# Altium integrated library TI Data Converters Digital to Analog Converter.IntLib: 1533 symbols (part 48 of 99)
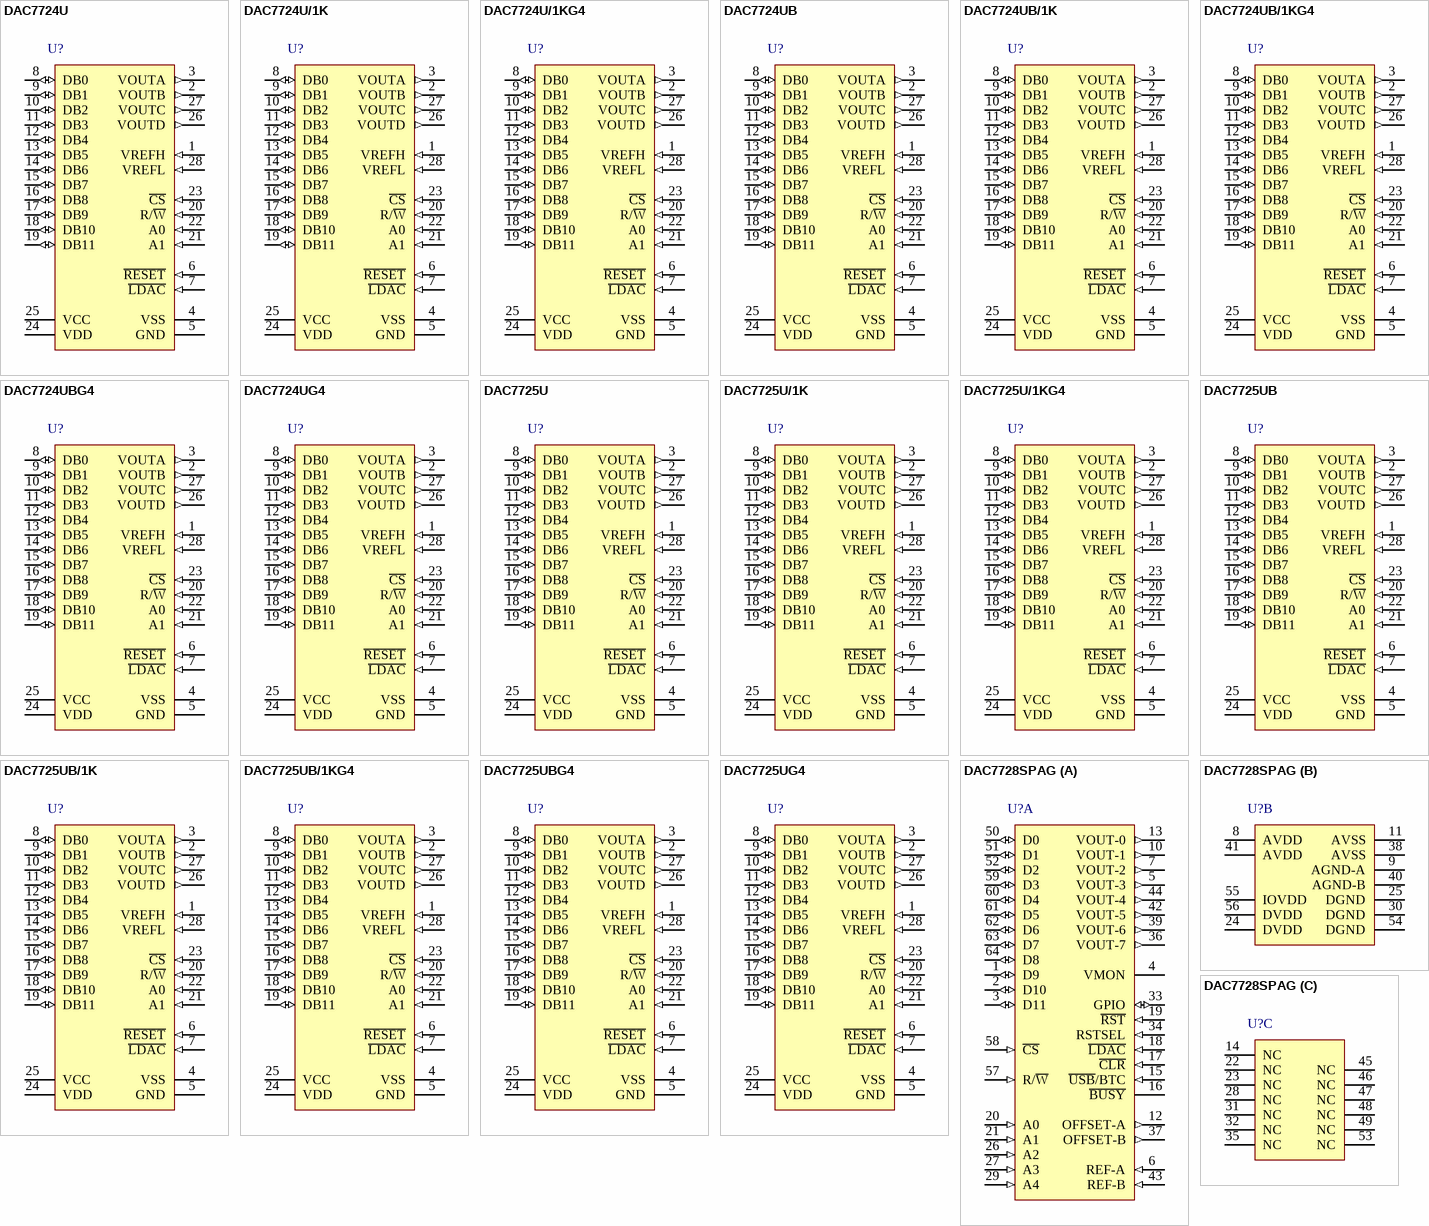
[diagram p120: symbols DAC7724U to DAC7728SPAG]

## DAC7725UB
designator U?
12-Bit Quad Voltage Output DAC, -40 to 85 degC, 28-pin SOIC (DW28), Green (RoHS & no Sb/Br); Manufacturer: Texas Instruments; PartNumber: DAC7725UB; DAC Channels: 4; DNL(Max)(+/-LSB): 1; Interface: Parallel; Power Consumption(Typ)(mW): 45; Resolution(Bits): 12; Settling Time(us): 8; SubFamily: Precision DAC (=<10MSPS); DatasheetVersion: SBAS112; PackageVersion: 4040000-6/G, 01/2011; PackageReference: DW28; PackageDescription: 28-Pin Plastic Small Outline, Body 17.90 x 7.50 mm, Pitch 1.27 mm; Supplier 1: Digi-Key; Supplier Part Number 1: DAC7725UB-ND; Supplier 2: Farnell; Supplier Part Number 2: 1212276; Supplier 3: Newark; Supplier Part Number 3: 74C9252; Supplier 4: Mouser; Supplier Part Number 4: 595-DAC7725UB; Eco-Plan: Green (RoHS & no Sb/Br); INL(Max)(+/-LSB): 1; Mounting Technology: Surface Mount; Code_JEDEC: MS-013; ComponentLink1Description: Manufacturer URL; ComponentLink1URL: http://www.ti.com/; ComponentLink2Description: Datasheet; ComponentLink2URL: http://www.ti.com/general/docs/lit/getliterature.tsp?genericPartNumber=DAC7725&fileType=pdf; ComponentLink3Description: Package Specification; ComponentLink3URL: http://www.ti.com/lit/ml/mpds175a/mpds175a.pdf
footprint TI-DW28_N (SOIC, 28-Leads, Body 17.9x7.5mm, Pitch 1.27mm, IPC Medium Density)
footprint TI-DW28_L (SOIC, 28-Leads, Body 17.9x7.5mm, Pitch 1.27mm, IPC High Density)
footprint TI-DW28_M (SOIC, 28-Leads, Body 17.9x7.5mm, Pitch 1.27mm, IPC Low Density)
pins: 1 VREFH (in) "Reference Input Voltage High. Sets maximum output voltage for all DACs.", 2 VOUTB (out) "DAC B Voltage Output.", 3 VOUTA (out) "DAC A Voltage Output.", 4 VSS (power) "Negative Analog Supply Voltage, 0V or -15V.", 5 GND (power) "Ground.", 6 ~{RESET} (in) "Asynchronous Reset Input. Sets DAC and input registers to either mid-scale (800H, DAC7724) or zero-scale (000H, DAC7725) when LOW.", 7 ~{LDAC} (in) "Load DAC Input. All DAC Registers are transparent when LOW.", 8 DB0 (io) "Data Bit 0. Least significant bit of 12-bit word.", 9 DB1 (io) "Data Bit 1", 10 DB2 (io) "Data Bit 2", 11 DB3 (io) "Data Bit 3", 12 DB4 (io) "Data Bit 4", 13 DB5 (io) "Data Bit 5", 14 DB6 (io) "Data Bit 6", 15 DB7 (io) "Data Bit 7", 16 DB8 (io) "Data Bit 8", 17 DB9 (io) "Data Bit 9", 18 DB10 (io) "Data Bit 10", 19 DB11 (io) "Data Bit 11. Most significant bit of 12-bit word.", 20 R/~{W} (in) "Read/Write Control Input (read = HIGH, write = LOW).", 21 A1 (in) "Register/DAC Select (C or D = HIGH, A or B = LOW).", 22 A0 (in) "Register/DAC Select (B or D = HIGH, A or C = LOW).", 23 ~{CS} (in) "Chip Select Input.", 24 VDD (power) "Positive Digital Supply, +5V.", 25 VCC (power) "Positive Analog Supply Voltage, +15V nominal.", 26 VOUTD (out) "DAC D Voltage Output.", 27 VOUTC (out) "DAC C Voltage Output.", 28 VREFL (in) "Reference Input Voltage Low. Sets minimum output voltage for all DACs."

## DAC7725UB/1K
designator U?
12-Bit Quad Voltage Output DAC, -40 to 85 degC, 28-pin SOIC (DW28), Green (RoHS & no Sb/Br); Manufacturer: Texas Instruments; PartNumber: DAC7725UB/1K; DAC Channels: 4; DNL(Max)(+/-LSB): 1; Interface: Parallel; Power Consumption(Typ)(mW): 45; Resolution(Bits): 12; Settling Time(us): 8; SubFamily: Precision DAC (=<10MSPS); DatasheetVersion: SBAS112; PackageVersion: 4040000-6/G, 01/2011; PackageReference: DW28; PackageDescription: 28-Pin Plastic Small Outline, Body 17.90 x 7.50 mm, Pitch 1.27 mm; Supplier 1: Digi-Key; Supplier Part Number 1: DAC7725UB/1K-ND; Supplier 2: Mouser; Supplier Part Number 2: 595-DAC7725UB/1K; Eco-Plan: Green (RoHS & no Sb/Br); INL(Max)(+/-LSB): 1; Mounting Technology: Surface Mount; Code_JEDEC: MS-013; ComponentLink1Description: Manufacturer URL; ComponentLink1URL: http://www.ti.com/; ComponentLink2Description: Datasheet; ComponentLink2URL: http://www.ti.com/general/docs/lit/getliterature.tsp?genericPartNumber=DAC7725&fileType=pdf; ComponentLink3Description: Package Specification; ComponentLink3URL: http://www.ti.com/lit/ml/mpds175a/mpds175a.pdf
footprint TI-DW28_N (SOIC, 28-Leads, Body 17.9x7.5mm, Pitch 1.27mm, IPC Medium Density)
footprint TI-DW28_L (SOIC, 28-Leads, Body 17.9x7.5mm, Pitch 1.27mm, IPC High Density)
footprint TI-DW28_M (SOIC, 28-Leads, Body 17.9x7.5mm, Pitch 1.27mm, IPC Low Density)
pins: 1 VREFH (in) "Reference Input Voltage High. Sets maximum output voltage for all DACs.", 2 VOUTB (out) "DAC B Voltage Output.", 3 VOUTA (out) "DAC A Voltage Output.", 4 VSS (power) "Negative Analog Supply Voltage, 0V or -15V.", 5 GND (power) "Ground.", 6 ~{RESET} (in) "Asynchronous Reset Input. Sets DAC and input registers to either mid-scale (800H, DAC7724) or zero-scale (000H, DAC7725) when LOW.", 7 ~{LDAC} (in) "Load DAC Input. All DAC Registers are transparent when LOW.", 8 DB0 (io) "Data Bit 0. Least significant bit of 12-bit word.", 9 DB1 (io) "Data Bit 1", 10 DB2 (io) "Data Bit 2", 11 DB3 (io) "Data Bit 3", 12 DB4 (io) "Data Bit 4", 13 DB5 (io) "Data Bit 5", 14 DB6 (io) "Data Bit 6", 15 DB7 (io) "Data Bit 7", 16 DB8 (io) "Data Bit 8", 17 DB9 (io) "Data Bit 9", 18 DB10 (io) "Data Bit 10", 19 DB11 (io) "Data Bit 11. Most significant bit of 12-bit word.", 20 R/~{W} (in) "Read/Write Control Input (read = HIGH, write = LOW).", 21 A1 (in) "Register/DAC Select (C or D = HIGH, A or B = LOW).", 22 A0 (in) "Register/DAC Select (B or D = HIGH, A or C = LOW).", 23 ~{CS} (in) "Chip Select Input.", 24 VDD (power) "Positive Digital Supply, +5V.", 25 VCC (power) "Positive Analog Supply Voltage, +15V nominal.", 26 VOUTD (out) "DAC D Voltage Output.", 27 VOUTC (out) "DAC C Voltage Output.", 28 VREFL (in) "Reference Input Voltage Low. Sets minimum output voltage for all DACs."

## DAC7725UB/1KG4
designator U?
12-Bit Quad Voltage Output DAC, -40 to 85 degC, 28-pin SOIC (DW28), Green (RoHS & no Sb/Br); Manufacturer: Texas Instruments; PartNumber: DAC7725UB/1KG4; DAC Channels: 4; DNL(Max)(+/-LSB): 1; Interface: Parallel; Power Consumption(Typ)(mW): 45; Resolution(Bits): 12; Settling Time(us): 8; SubFamily: Precision DAC (=<10MSPS); DatasheetVersion: SBAS112; PackageVersion: 4040000-6/G, 01/2011; PackageReference: DW28; PackageDescription: 28-Pin Plastic Small Outline, Body 17.90 x 7.50 mm, Pitch 1.27 mm; Supplier 1: Digi-Key; Supplier Part Number 1: DAC7725UB/1KG4-ND; Supplier 2: Mouser; Supplier Part Number 2: 595-DAC7725UB/1KG4; Eco-Plan: Green (RoHS & no Sb/Br); INL(Max)(+/-LSB): 1; Mounting Technology: Surface Mount; Code_JEDEC: MS-013; ComponentLink1Description: Manufacturer URL; ComponentLink1URL: http://www.ti.com/; ComponentLink2Description: Datasheet; ComponentLink2URL: http://www.ti.com/general/docs/lit/getliterature.tsp?genericPartNumber=DAC7725&fileType=pdf; ComponentLink3Description: Package Specification; ComponentLink3URL: http://www.ti.com/lit/ml/mpds175a/mpds175a.pdf
footprint TI-DW28_N (SOIC, 28-Leads, Body 17.9x7.5mm, Pitch 1.27mm, IPC Medium Density)
footprint TI-DW28_L (SOIC, 28-Leads, Body 17.9x7.5mm, Pitch 1.27mm, IPC High Density)
footprint TI-DW28_M (SOIC, 28-Leads, Body 17.9x7.5mm, Pitch 1.27mm, IPC Low Density)
pins: 1 VREFH (in) "Reference Input Voltage High. Sets maximum output voltage for all DACs.", 2 VOUTB (out) "DAC B Voltage Output.", 3 VOUTA (out) "DAC A Voltage Output.", 4 VSS (power) "Negative Analog Supply Voltage, 0V or -15V.", 5 GND (power) "Ground.", 6 ~{RESET} (in) "Asynchronous Reset Input. Sets DAC and input registers to either mid-scale (800H, DAC7724) or zero-scale (000H, DAC7725) when LOW.", 7 ~{LDAC} (in) "Load DAC Input. All DAC Registers are transparent when LOW.", 8 DB0 (io) "Data Bit 0. Least significant bit of 12-bit word.", 9 DB1 (io) "Data Bit 1", 10 DB2 (io) "Data Bit 2", 11 DB3 (io) "Data Bit 3", 12 DB4 (io) "Data Bit 4", 13 DB5 (io) "Data Bit 5", 14 DB6 (io) "Data Bit 6", 15 DB7 (io) "Data Bit 7", 16 DB8 (io) "Data Bit 8", 17 DB9 (io) "Data Bit 9", 18 DB10 (io) "Data Bit 10", 19 DB11 (io) "Data Bit 11. Most significant bit of 12-bit word.", 20 R/~{W} (in) "Read/Write Control Input (read = HIGH, write = LOW).", 21 A1 (in) "Register/DAC Select (C or D = HIGH, A or B = LOW).", 22 A0 (in) "Register/DAC Select (B or D = HIGH, A or C = LOW).", 23 ~{CS} (in) "Chip Select Input.", 24 VDD (power) "Positive Digital Supply, +5V.", 25 VCC (power) "Positive Analog Supply Voltage, +15V nominal.", 26 VOUTD (out) "DAC D Voltage Output.", 27 VOUTC (out) "DAC C Voltage Output.", 28 VREFL (in) "Reference Input Voltage Low. Sets minimum output voltage for all DACs."

## DAC7725UBG4
designator U?
12-Bit Quad Voltage Output DAC, -40 to 85 degC, 28-pin SOIC (DW28), Green (RoHS & no Sb/Br); Manufacturer: Texas Instruments; PartNumber: DAC7725UBG4; DAC Channels: 4; DNL(Max)(+/-LSB): 1; Interface: Parallel; Power Consumption(Typ)(mW): 45; Resolution(Bits): 12; Settling Time(us): 8; SubFamily: Precision DAC (=<10MSPS); DatasheetVersion: SBAS112; PackageVersion: 4040000-6/G, 01/2011; PackageReference: DW28; PackageDescription: 28-Pin Plastic Small Outline, Body 17.90 x 7.50 mm, Pitch 1.27 mm; Supplier 1: Digi-Key; Supplier Part Number 1: DAC7725UBG4-ND; Supplier 2: Mouser; Supplier Part Number 2: 595-DAC7725UBG4; Eco-Plan: Green (RoHS & no Sb/Br); INL(Max)(+/-LSB): 1; Mounting Technology: Surface Mount; Code_JEDEC: MS-013; ComponentLink1Description: Manufacturer URL; ComponentLink1URL: http://www.ti.com/; ComponentLink2Description: Datasheet; ComponentLink2URL: http://www.ti.com/general/docs/lit/getliterature.tsp?genericPartNumber=DAC7725&fileType=pdf; ComponentLink3Description: Package Specification; ComponentLink3URL: http://www.ti.com/lit/ml/mpds175a/mpds175a.pdf
footprint TI-DW28_N (SOIC, 28-Leads, Body 17.9x7.5mm, Pitch 1.27mm, IPC Medium Density)
footprint TI-DW28_L (SOIC, 28-Leads, Body 17.9x7.5mm, Pitch 1.27mm, IPC High Density)
footprint TI-DW28_M (SOIC, 28-Leads, Body 17.9x7.5mm, Pitch 1.27mm, IPC Low Density)
pins: 1 VREFH (in) "Reference Input Voltage High. Sets maximum output voltage for all DACs.", 2 VOUTB (out) "DAC B Voltage Output.", 3 VOUTA (out) "DAC A Voltage Output.", 4 VSS (power) "Negative Analog Supply Voltage, 0V or -15V.", 5 GND (power) "Ground.", 6 ~{RESET} (in) "Asynchronous Reset Input. Sets DAC and input registers to either mid-scale (800H, DAC7724) or zero-scale (000H, DAC7725) when LOW.", 7 ~{LDAC} (in) "Load DAC Input. All DAC Registers are transparent when LOW.", 8 DB0 (io) "Data Bit 0. Least significant bit of 12-bit word.", 9 DB1 (io) "Data Bit 1", 10 DB2 (io) "Data Bit 2", 11 DB3 (io) "Data Bit 3", 12 DB4 (io) "Data Bit 4", 13 DB5 (io) "Data Bit 5", 14 DB6 (io) "Data Bit 6", 15 DB7 (io) "Data Bit 7", 16 DB8 (io) "Data Bit 8", 17 DB9 (io) "Data Bit 9", 18 DB10 (io) "Data Bit 10", 19 DB11 (io) "Data Bit 11. Most significant bit of 12-bit word.", 20 R/~{W} (in) "Read/Write Control Input (read = HIGH, write = LOW).", 21 A1 (in) "Register/DAC Select (C or D = HIGH, A or B = LOW).", 22 A0 (in) "Register/DAC Select (B or D = HIGH, A or C = LOW).", 23 ~{CS} (in) "Chip Select Input.", 24 VDD (power) "Positive Digital Supply, +5V.", 25 VCC (power) "Positive Analog Supply Voltage, +15V nominal.", 26 VOUTD (out) "DAC D Voltage Output.", 27 VOUTC (out) "DAC C Voltage Output.", 28 VREFL (in) "Reference Input Voltage Low. Sets minimum output voltage for all DACs."

## DAC7725UG4
designator U?
12-Bit Quad Voltage Output DAC, -40 to 85 degC, 28-pin SOIC (DW28), Green (RoHS & no Sb/Br); Manufacturer: Texas Instruments; PartNumber: DAC7725UG4; DAC Channels: 4; DNL(Max)(+/-LSB): 1; INL(Max)(+/-LSB): 2; Interface: Parallel; Power Consumption(Typ)(mW): 45; Resolution(Bits): 12; Settling Time(us): 8; SubFamily: Precision DAC (=<10MSPS); DatasheetVersion: SBAS112; PackageVersion: 4040000-6/G, 01/2011; PackageReference: DW28; PackageDescription: 28-Pin Plastic Small Outline, Body 17.90 x 7.50 mm, Pitch 1.27 mm; Supplier 1: Digi-Key; Supplier Part Number 1: DAC7725UG4-ND; Supplier 2: Mouser; Supplier Part Number 2: 595-DAC7725UG4; Eco-Plan: Green (RoHS & no Sb/Br); Mounting Technology: Surface Mount; Code_JEDEC: MS-013; ComponentLink1Description: Manufacturer URL; ComponentLink1URL: http://www.ti.com/; ComponentLink2Description: Datasheet; ComponentLink2URL: http://www.ti.com/general/docs/lit/getliterature.tsp?genericPartNumber=DAC7725&fileType=pdf; ComponentLink3Description: Package Specification; ComponentLink3URL: http://www.ti.com/lit/ml/mpds175a/mpds175a.pdf
footprint TI-DW28_N (SOIC, 28-Leads, Body 17.9x7.5mm, Pitch 1.27mm, IPC Medium Density)
footprint TI-DW28_L (SOIC, 28-Leads, Body 17.9x7.5mm, Pitch 1.27mm, IPC High Density)
footprint TI-DW28_M (SOIC, 28-Leads, Body 17.9x7.5mm, Pitch 1.27mm, IPC Low Density)
pins: 1 VREFH (in) "Reference Input Voltage High. Sets maximum output voltage for all DACs.", 2 VOUTB (out) "DAC B Voltage Output.", 3 VOUTA (out) "DAC A Voltage Output.", 4 VSS (power) "Negative Analog Supply Voltage, 0V or -15V.", 5 GND (power) "Ground.", 6 ~{RESET} (in) "Asynchronous Reset Input. Sets DAC and input registers to either mid-scale (800H, DAC7724) or zero-scale (000H, DAC7725) when LOW.", 7 ~{LDAC} (in) "Load DAC Input. All DAC Registers are transparent when LOW.", 8 DB0 (io) "Data Bit 0. Least significant bit of 12-bit word.", 9 DB1 (io) "Data Bit 1", 10 DB2 (io) "Data Bit 2", 11 DB3 (io) "Data Bit 3", 12 DB4 (io) "Data Bit 4", 13 DB5 (io) "Data Bit 5", 14 DB6 (io) "Data Bit 6", 15 DB7 (io) "Data Bit 7", 16 DB8 (io) "Data Bit 8", 17 DB9 (io) "Data Bit 9", 18 DB10 (io) "Data Bit 10", 19 DB11 (io) "Data Bit 11. Most significant bit of 12-bit word.", 20 R/~{W} (in) "Read/Write Control Input (read = HIGH, write = LOW).", 21 A1 (in) "Register/DAC Select (C or D = HIGH, A or B = LOW).", 22 A0 (in) "Register/DAC Select (B or D = HIGH, A or C = LOW).", 23 ~{CS} (in) "Chip Select Input.", 24 VDD (power) "Positive Digital Supply, +5V.", 25 VCC (power) "Positive Analog Supply Voltage, +15V nominal.", 26 VOUTD (out) "DAC D Voltage Output.", 27 VOUTC (out) "DAC C Voltage Output.", 28 VREFL (in) "Reference Input Voltage Low. Sets minimum output voltage for all DACs."

## DAC7728SPAG
designator U?
Octal, Low Power, 12-Bit, +/- 16.5 V Output Parallel Input DAC, -40 to 105 degC, 64-pin QFP (PAG64), Green (RoHS & no Sb/Br); Manufacturer: Texas Instruments; PartNumber: DAC7728SPAG; DAC Channels: 8; DNL(Max)(+/-LSB): 1; Power Consumption(Typ)(mW): 144; Resolution(Bits): 12; Settling Time(us): 10; SubFamily: Precision DAC (=<10MSPS); DatasheetVersion: SBAS461A; PackageVersion: 4040282/C, 11/1996; PackageReference: PAG64; PackageDescription: 64-Pin Plastic Flat Pack, Body 10 x 10 mm, Pitch 0.50 mm; Supplier 1: Digi-Key; Supplier Part Number 1: 296-25468-ND; Supplier 2: Newark; Supplier Part Number 2: 53R2223; Supplier 3: Mouser; Supplier Part Number 3: 595-DAC7728SPAG; Eco-Plan: Green (RoHS & no Sb/Br); INL(Max)(+/-LSB): 1; Interface: Parallel; Mounting Technology: Surface Mount; Code_JEDEC: MS-026; ComponentLink1Description: Manufacturer URL; ComponentLink1URL: http://www.ti.com/; ComponentLink2Description: Datasheet; ComponentLink2URL: http://www.ti.com/general/docs/lit/getliterature.tsp?genericPartNumber=DAC7728&fileType=pdf; ComponentLink3Description: Package Specification; ComponentLink3URL: http://www.ti.com/lit/ml/mtqf006a/mtqf006a.pdf
footprint TI-PAG64_N (QFP, 64-Leads, Body 10x10mm, Pitch 0.5mm, IPC Medium Density)
footprint TI-PAG64_L (QFP, 64-Leads, Body 10x10mm, Pitch 0.5mm, IPC High Density)
footprint TI-PAG64_M (QFP, 64-Leads, Body 10x10mm, Pitch 0.5mm, IPC Low Density)
part A pins: 1 D9 (io) "Data bit 9", 2 D10 (io) "Data bit 10", 3 D11 (io) "Data bit 11", 4 VMON (hiz) "Analog monitor output. This pin is either in Hi-Z status, or connected to one of the DAC outputs, reference buffer outputs, or offset DAC outputs, depending on the content of the Monitor Register.", 5 VOUT-3 (out) "DAC-3 output", 6 REF-A (in) "Group A reference input", 7 VOUT-2 (out) "DAC-2 output", 10 VOUT-1 (out) "DAC-1 output", 12 OFFSET-A (out) "OFFSET DAC-A analog output. Must be connected to AGND-A during single power-supply operation (AVSS = 0V). This pin is not intended to drive an external load.", 13 VOUT-0 (out) "DAC-0 output", 15 ~{USB}/BTC (in) "Input data format selection. Input data are in straight binary format when connected to DGND or in twos complement format when connected to IOVDD. Command data are always in straight binary format.", 16 ~{BUSY} (hiz) "This pin is an open drain and requires an external pullup resistor. B\U\S\Y\ goes low when the correction engine is running; see the Busy Pin section for details.", 17 ~{CLR} (in) "Level trigger. When the C\L\R\ pin is logic '0', all VOUT-X pins connect to AGND-x through switches and an internal 15k ohm resistor. When the C\L\R\ pin is logic '1' and L\D\A\C\ is logic '0', all VOUT-X pins connect to the (See Datasheet)", 18 ~{LDAC} (in) "Load DAC latch control input (active low). When L\D\A\C\ is low, the DAC latch is transparent and the contents of the DAC Data Register are transferred to it. The DAC output changes to the corresponding level simultaneously (See Datasheet)", 19 ~{RST} (in) "Reset input (active low). Logic low on this pin resets the DAC registers and DACs to the values defined by the RSTSEL pin. C\S\ must be at logic high when R\S\T\ is used.", 20 A0 (in) "Address bit A0 to specify the internal registers.", 21 A1 (in) "Address bit A1 to specify the internal registers.", 26 A2 (in) "Address bit A2 to specify the internal registers.", 27 A3 (in) "Address bit A3 to specify the internal registers.", 29 A4 (in) "Address bit A4 to specify the internal registers.", 33 GPIO (io) "General-purpose digital input/output. This pin is a bidirectional, open-drain, digital input/output, and requires an external pullup resistor. See the GPIO Pin section for details.", 34 RSTSEL (in) "Output reset selection. Selects the output voltage on the VOUT pin after power-on or hardware reset. Refer to the Power-On Reset section for details.", 36 VOUT-7 (out) "DAC-7 output", 37 OFFSET-B (out) "OFFSET DAC-B analog output. Must be connected to AGND-B during single-supply operation (AVSS = 0V). This pin is not intended to drive an external load.", 39 VOUT-6 (out) "DAC-6 output", 42 VOUT-5 (out) "DAC-5 output", 43 REF-B (in) "Group B reference input", 44 VOUT-4 (out) "DAC-4 output", 50 D0 (io) "Data bit 0", 51 D1 (io) "Data bit 1", 52 D2 (io) "Data bit 2", 57 R/~{W} (in) "Read and write signal. High for reading operation; low for writing operation.", 58 ~{CS} (in) "Chip select input (active low)", 59 D3 (io) "Data bit 3", 60 D4 (io) "Data bit 4", 61 D5 (io) "Data bit 5", 62 D6 (io) "Data bit 6", 63 D7 (io) "Data bit 7", 64 D8 (io) "Data bit 8"
part B pins: 8 AVDD (power) "Positive analog power supply", 9 AGND-A (power) "Group A analog ground and the ground of REF-A. This pin must be tied to AGND-B and DGND.", 11 AVSS (power) "Negative analog power supply. Connect to AGND in single-supply operation.", 24 DVDD (power) "Digital power supply", 25 DGND (power) "Digital ground", 30 DGND (power) "Digital ground", 38 AVSS (power) "Negative analog power supply. Connect to AGND in single-supply operation.", 40 AGND-B (power) "Group B analog ground and the ground of REF-B. This pin must be tied to AGND-A and DGND.", 41 AVDD (power) "Positive analog power supply", 54 DGND (power) "Digital ground", 55 IOVDD (power) "Digital interface power supply", 56 DVDD (power) "Digital power supply"
part C pins: 14 NC "Not connected", 22 NC "Not connected", 23 NC "Not connected", 28 NC "Not connected", 31 NC "Not connected", 32 NC "Not connected", 35 NC "Not connected", 45 NC "Not connected", 46 NC "Not connected", 47 NC "Not connected", 48 NC "Not connected", 49 NC "Not connected", 53 NC "Not connected"

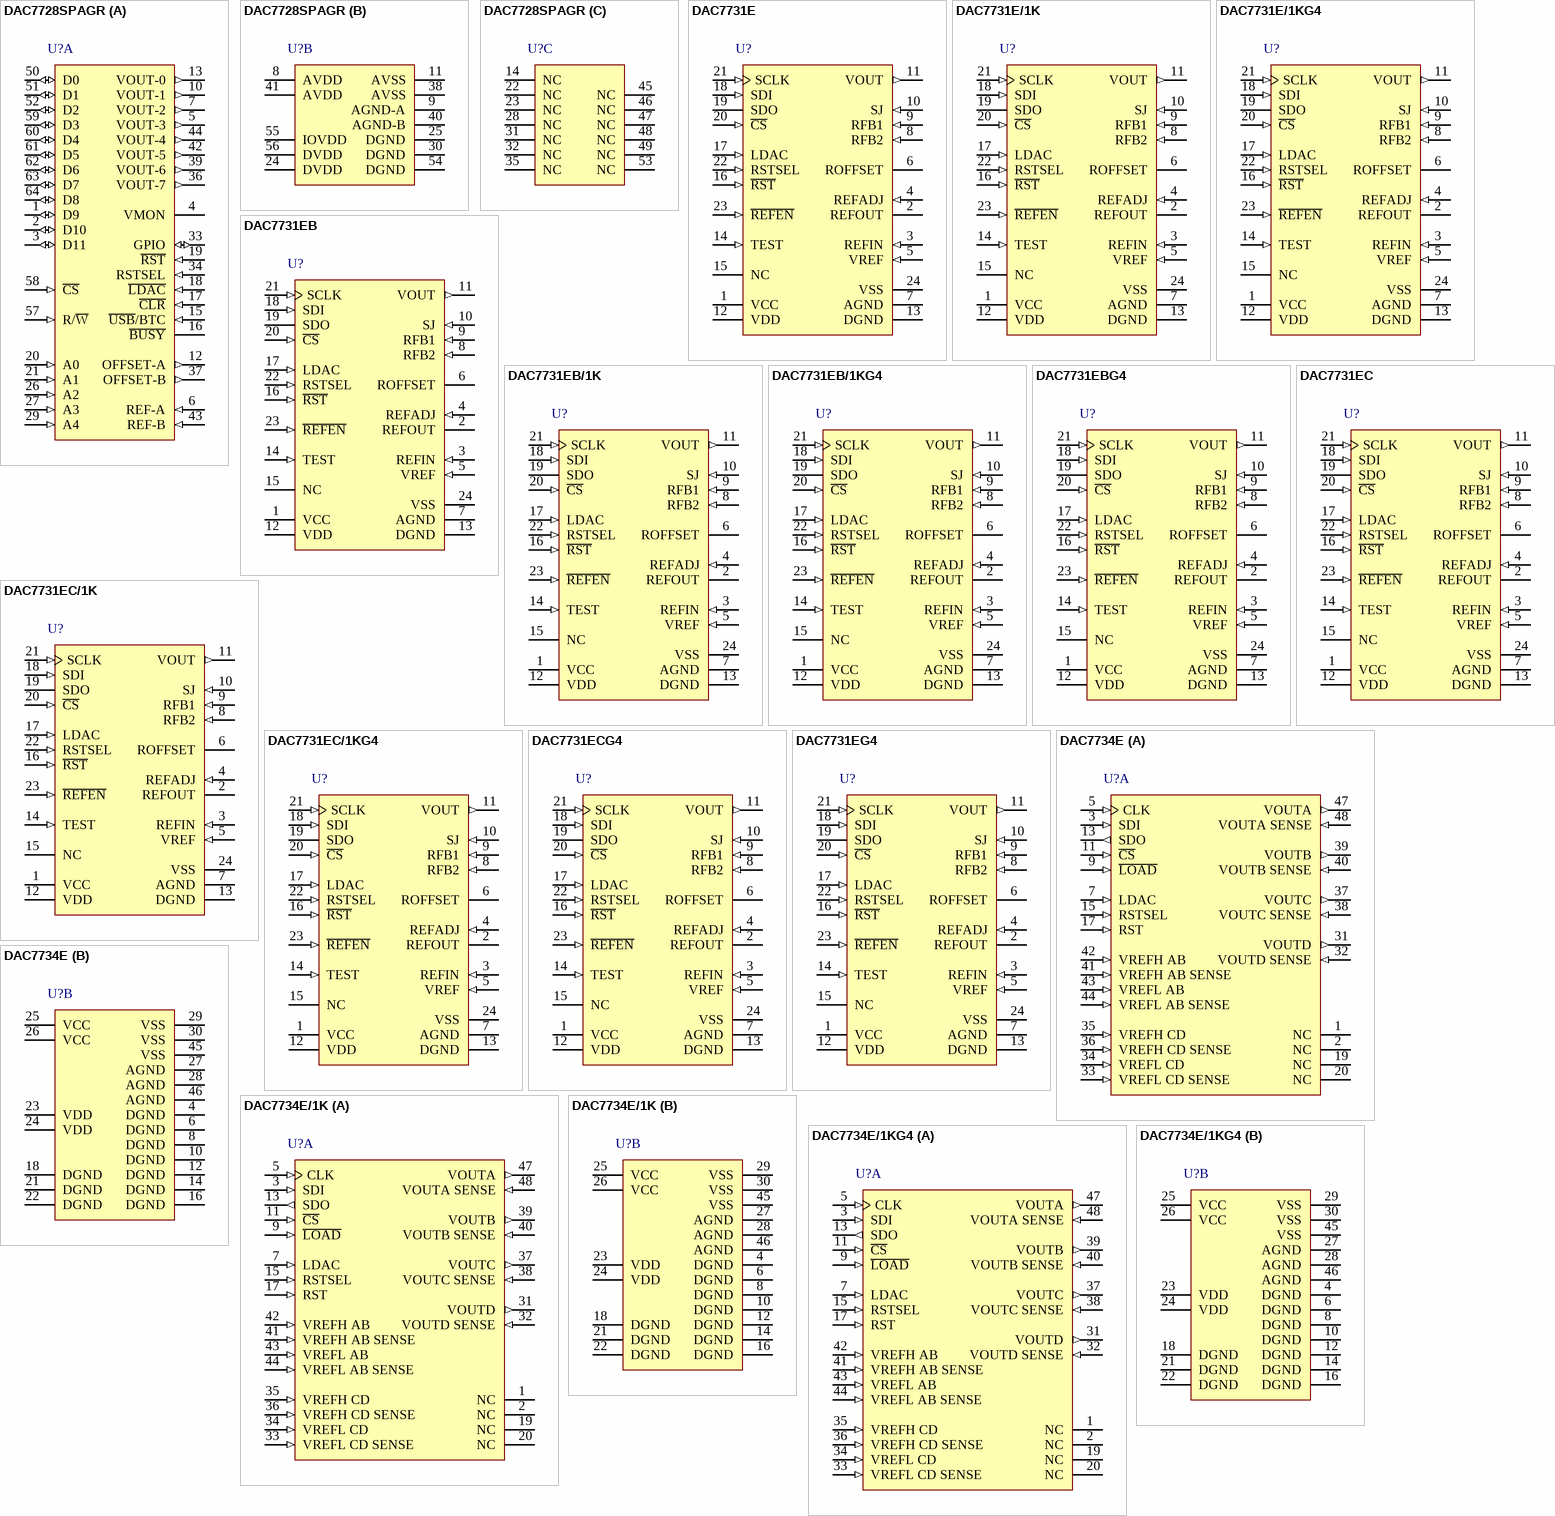
[diagram p37: symbols DAC7728SPAGR to DAC7734E/1KG4]

## DAC7728SPAGR
designator U?
Octal, Low Power, 12-Bit, +/- 16.5 V Output Parallel Input DAC, -40 to 105 degC, 64-pin QFP (PAG64), Green (RoHS & no Sb/Br); Manufacturer: Texas Instruments; PartNumber: DAC7728SPAGR; DAC Channels: 8; DNL(Max)(+/-LSB): 1; Power Consumption(Typ)(mW): 144; Resolution(Bits): 12; Settling Time(us): 10; SubFamily: Precision DAC (=<10MSPS); DatasheetVersion: SBAS461A; PackageVersion: 4040282/C, 11/1996; PackageReference: PAG64; PackageDescription: 64-Pin Plastic Flat Pack, Body 10 x 10 mm, Pitch 0.50 mm; Supplier 1: Digi-Key; Supplier Part Number 1: DAC7728SPAGR-ND; Supplier 2: Newark; Supplier Part Number 2: 63R9881; Supplier 3: Mouser; Supplier Part Number 3: 595-DAC7728SPAGR; Eco-Plan: Green (RoHS & no Sb/Br); INL(Max)(+/-LSB): 1; Interface: Parallel; Mounting Technology: Surface Mount; Code_JEDEC: MS-026; ComponentLink1Description: Manufacturer URL; ComponentLink1URL: http://www.ti.com/; ComponentLink2Description: Datasheet; ComponentLink2URL: http://www.ti.com/general/docs/lit/getliterature.tsp?genericPartNumber=DAC7728&fileType=pdf; ComponentLink3Description: Package Specification; ComponentLink3URL: http://www.ti.com/lit/ml/mtqf006a/mtqf006a.pdf
footprint TI-PAG64_N (QFP, 64-Leads, Body 10x10mm, Pitch 0.5mm, IPC Medium Density)
footprint TI-PAG64_L (QFP, 64-Leads, Body 10x10mm, Pitch 0.5mm, IPC High Density)
footprint TI-PAG64_M (QFP, 64-Leads, Body 10x10mm, Pitch 0.5mm, IPC Low Density)
part A pins: 1 D9 (io) "Data bit 9", 2 D10 (io) "Data bit 10", 3 D11 (io) "Data bit 11", 4 VMON (hiz) "Analog monitor output. This pin is either in Hi-Z status, or connected to one of the DAC outputs, reference buffer outputs, or offset DAC outputs, depending on the content of the Monitor Register.", 5 VOUT-3 (out) "DAC-3 output", 6 REF-A (in) "Group A reference input", 7 VOUT-2 (out) "DAC-2 output", 10 VOUT-1 (out) "DAC-1 output", 12 OFFSET-A (out) "OFFSET DAC-A analog output. Must be connected to AGND-A during single power-supply operation (AVSS = 0V). This pin is not intended to drive an external load.", 13 VOUT-0 (out) "DAC-0 output", 15 ~{USB}/BTC (in) "Input data format selection. Input data are in straight binary format when connected to DGND or in twos complement format when connected to IOVDD. Command data are always in straight binary format.", 16 ~{BUSY} (hiz) "This pin is an open drain and requires an external pullup resistor. B\U\S\Y\ goes low when the correction engine is running; see the Busy Pin section for details.", 17 ~{CLR} (in) "Level trigger. When the C\L\R\ pin is logic '0', all VOUT-X pins connect to AGND-x through switches and an internal 15k ohm resistor. When the C\L\R\ pin is logic '1' and L\D\A\C\ is logic '0', all VOUT-X pins connect to the (See Datasheet)", 18 ~{LDAC} (in) "Load DAC latch control input (active low). When L\D\A\C\ is low, the DAC latch is transparent and the contents of the DAC Data Register are transferred to it. The DAC output changes to the corresponding level simultaneously (See Datasheet)", 19 ~{RST} (in) "Reset input (active low). Logic low on this pin resets the DAC registers and DACs to the values defined by the RSTSEL pin. C\S\ must be at logic high when R\S\T\ is used.", 20 A0 (in) "Address bit A0 to specify the internal registers.", 21 A1 (in) "Address bit A1 to specify the internal registers.", 26 A2 (in) "Address bit A2 to specify the internal registers.", 27 A3 (in) "Address bit A3 to specify the internal registers.", 29 A4 (in) "Address bit A4 to specify the internal registers.", 33 GPIO (io) "General-purpose digital input/output. This pin is a bidirectional, open-drain, digital input/output, and requires an external pullup resistor. See the GPIO Pin section for details.", 34 RSTSEL (in) "Output reset selection. Selects the output voltage on the VOUT pin after power-on or hardware reset. Refer to the Power-On Reset section for details.", 36 VOUT-7 (out) "DAC-7 output", 37 OFFSET-B (out) "OFFSET DAC-B analog output. Must be connected to AGND-B during single-supply operation (AVSS = 0V). This pin is not intended to drive an external load.", 39 VOUT-6 (out) "DAC-6 output", 42 VOUT-5 (out) "DAC-5 output", 43 REF-B (in) "Group B reference input", 44 VOUT-4 (out) "DAC-4 output", 50 D0 (io) "Data bit 0", 51 D1 (io) "Data bit 1", 52 D2 (io) "Data bit 2", 57 R/~{W} (in) "Read and write signal. High for reading operation; low for writing operation.", 58 ~{CS} (in) "Chip select input (active low)", 59 D3 (io) "Data bit 3", 60 D4 (io) "Data bit 4", 61 D5 (io) "Data bit 5", 62 D6 (io) "Data bit 6", 63 D7 (io) "Data bit 7", 64 D8 (io) "Data bit 8"
part B pins: 8 AVDD (power) "Positive analog power supply", 9 AGND-A (power) "Group A analog ground and the ground of REF-A. This pin must be tied to AGND-B and DGND.", 11 AVSS (power) "Negative analog power supply. Connect to AGND in single-supply operation.", 24 DVDD (power) "Digital power supply", 25 DGND (power) "Digital ground", 30 DGND (power) "Digital ground", 38 AVSS (power) "Negative analog power supply. Connect to AGND in single-supply operation.", 40 AGND-B (power) "Group B analog ground and the ground of REF-B. This pin must be tied to AGND-A and DGND.", 41 AVDD (power) "Positive analog power supply", 54 DGND (power) "Digital ground", 55 IOVDD (power) "Digital interface power supply", 56 DVDD (power) "Digital power supply"
part C pins: 14 NC "Not connected", 22 NC "Not connected", 23 NC "Not connected", 28 NC "Not connected", 31 NC "Not connected", 32 NC "Not connected", 35 NC "Not connected", 45 NC "Not connected", 46 NC "Not connected", 47 NC "Not connected", 48 NC "Not connected", 49 NC "Not connected", 53 NC "Not connected"

## DAC7731E
designator U?
16-Bit, Single Channel, DAC with Internal + 10 V Reference and Serial Interface, -40 to 85 degC, 24-pin SOP (DB24), Green (RoHS & no Sb/Br); Manufacturer: Texas Instruments; PartNumber: DAC7731E; DAC Channels: 1; DNL(Max)(+/-LSB): 4; INL(Max)(+/-LSB): 6; Interface: Serial SPI; Power Consumption(Typ)(mW): 100; Resolution(Bits): 16; Settling Time(us): 5; SubFamily: Precision DAC (=<10MSPS); DatasheetVersion: SBAS249B; PackageVersion: 4040065/E, 12/2001; PackageReference: DB24; PackageDescription: 24-Pin Plastic Small Outline, Body 8.2 x 5.3 mm, Pitch 0.65 mm; Supplier 1: Digi-Key; Supplier Part Number 1: 296-33256-5-ND; Supplier 2: Farnell; Supplier Part Number 2: 1575422; Supplier 3: Newark; Supplier Part Number 3: 74C9254; Supplier 4: Mouser; Supplier Part Number 4: 595-DAC7731E; Eco-Plan: Green (RoHS & no Sb/Br); Mounting Technology: Surface Mount; Code_JEDEC: MO-150; ComponentLink1Description: Manufacturer URL; ComponentLink1URL: http://www.ti.com/; ComponentLink2Description: Datasheet; ComponentLink2URL: http://www.ti.com/general/docs/lit/getliterature.tsp?genericPartNumber=DAC7731&fileType=pdf; ComponentLink3Description: Package Specification; ComponentLink3URL: http://www.ti.com/lit/ml/msso002e/msso002e.pdf
footprint TI-DB24_N (SOP, 24-Leads, Body 8.2x5.3mm, Pitch 0.65mm, IPC Medium Density)
footprint TI-DB24_L (SOP, 24-Leads, Body 8.2x5.3mm, Pitch 0.65mm, IPC High Density)
footprint TI-DB24_M (SOP, 24-Leads, Body 8.2x5.3mm, Pitch 0.65mm, IPC Low Density)
pins: 1 VCC (power) "Positive Analog Power Supply", 2 REFOUT (hiz) "Internal Reference Output", 3 REFIN (in) "Reference Input", 4 REFADJ (in) "Internal Reference Trim. (Acts as a gain adjustment input when the internal reference is used.)", 5 VREF (in) "Buffered Output from REFIN, can be used to drive external devices. Internally, this pin directly drives the DAC's circuitry.", 6 ROFFSET "Offsetting Resistor", 7 AGND (power) "Analog ground", 8 RFB2 (in) "Feedback Resistor 2, used to configure DAC output range.", 9 RFB1 (in) "Feedback Resistor 1, used to configure DAC output range.", 10 SJ (in) "Summing Junction of the Output Amplifier", 11 VOUT (out) "DAC Voltage Output", 12 VDD (power) "Digital Power Supply", 13 DGND (power) "Digital Ground", 14 TEST (in) "Reserved, Connect to DGND", 15 NC "No Connection", 16 ~{RST} (in) "VOUT reset; active LOW, depending on the state of RSTSEL, the DAC register is either reset to midscale or min-scale.", 17 LDAC (in) "DAC register load control, rising dege triggered. Data is loaded from the input register to the DAC register.", 18 SDI (in) "Serial Data Input. Data is latched into the input register on the rising edge of SCLK.", 19 SDO (hiz) "Serial Data Output, delayed 16 SCLK clock cycles.", 20 ~{CS} (in) "Chip Select, Active LOW", 21 SCLK (in) "Serial Clock Input", 22 RSTSEL (in) "Reset Select; determines the action of R\S\T\. If HIGH, R\S\T\ will reset the DAC register to mid-scale. If LOW, R\S\T\ will reset the DAC register to min-scale.", 23 ~{REFEN} (in) "Enables internal +10V reference (REFOUT), active LOW.", 24 VSS (power) "Negative Analog Power Supply"

## DAC7731E/1K
designator U?
16-Bit, Single Channel, DAC with Internal + 10 V Reference and Serial Interface, -40 to 85 degC, 24-pin SOP (DB24), Green (RoHS & no Sb/Br); Manufacturer: Texas Instruments; PartNumber: DAC7731E/1K; DAC Channels: 1; DNL(Max)(+/-LSB): 4; INL(Max)(+/-LSB): 6; Interface: Serial SPI; Power Consumption(Typ)(mW): 100; Resolution(Bits): 16; Settling Time(us): 5; SubFamily: Precision DAC (=<10MSPS); DatasheetVersion: SBAS249B; PackageVersion: 4040065/E, 12/2001; PackageReference: DB24; PackageDescription: 24-Pin Plastic Small Outline, Body 8.2 x 5.3 mm, Pitch 0.65 mm; Supplier 1: Digi-Key; Supplier Part Number 1: DAC7731E/1K-ND; Supplier 2: Mouser; Supplier Part Number 2: 595-DAC7731E/1K; Eco-Plan: Green (RoHS & no Sb/Br); Mounting Technology: Surface Mount; Code_JEDEC: MO-150; ComponentLink1Description: Manufacturer URL; ComponentLink1URL: http://www.ti.com/; ComponentLink2Description: Datasheet; ComponentLink2URL: http://www.ti.com/general/docs/lit/getliterature.tsp?genericPartNumber=DAC7731&fileType=pdf; ComponentLink3Description: Package Specification; ComponentLink3URL: http://www.ti.com/lit/ml/msso002e/msso002e.pdf
footprint TI-DB24_N (SOP, 24-Leads, Body 8.2x5.3mm, Pitch 0.65mm, IPC Medium Density)
footprint TI-DB24_L (SOP, 24-Leads, Body 8.2x5.3mm, Pitch 0.65mm, IPC High Density)
footprint TI-DB24_M (SOP, 24-Leads, Body 8.2x5.3mm, Pitch 0.65mm, IPC Low Density)
pins: 1 VCC (power) "Positive Analog Power Supply", 2 REFOUT (hiz) "Internal Reference Output", 3 REFIN (in) "Reference Input", 4 REFADJ (in) "Internal Reference Trim. (Acts as a gain adjustment input when the internal reference is used.)", 5 VREF (in) "Buffered Output from REFIN, can be used to drive external devices. Internally, this pin directly drives the DAC's circuitry.", 6 ROFFSET "Offsetting Resistor", 7 AGND (power) "Analog ground", 8 RFB2 (in) "Feedback Resistor 2, used to configure DAC output range.", 9 RFB1 (in) "Feedback Resistor 1, used to configure DAC output range.", 10 SJ (in) "Summing Junction of the Output Amplifier", 11 VOUT (out) "DAC Voltage Output", 12 VDD (power) "Digital Power Supply", 13 DGND (power) "Digital Ground", 14 TEST (in) "Reserved, Connect to DGND", 15 NC "No Connection", 16 ~{RST} (in) "VOUT reset; active LOW, depending on the state of RSTSEL, the DAC register is either reset to midscale or min-scale.", 17 LDAC (in) "DAC register load control, rising dege triggered. Data is loaded from the input register to the DAC register.", 18 SDI (in) "Serial Data Input. Data is latched into the input register on the rising edge of SCLK.", 19 SDO (hiz) "Serial Data Output, delayed 16 SCLK clock cycles.", 20 ~{CS} (in) "Chip Select, Active LOW", 21 SCLK (in) "Serial Clock Input", 22 RSTSEL (in) "Reset Select; determines the action of R\S\T\. If HIGH, R\S\T\ will reset the DAC register to mid-scale. If LOW, R\S\T\ will reset the DAC register to min-scale.", 23 ~{REFEN} (in) "Enables internal +10V reference (REFOUT), active LOW.", 24 VSS (power) "Negative Analog Power Supply"

## DAC7731E/1KG4
designator U?
16-Bit, Single Channel, DAC with Internal + 10 V Reference and Serial Interface, -40 to 85 degC, 24-pin SOP (DB24), Green (RoHS & no Sb/Br); Manufacturer: Texas Instruments; PartNumber: DAC7731E/1KG4; DAC Channels: 1; DNL(Max)(+/-LSB): 4; INL(Max)(+/-LSB): 6; Interface: Serial SPI; Power Consumption(Typ)(mW): 100; Resolution(Bits): 16; Settling Time(us): 5; SubFamily: Precision DAC (=<10MSPS); DatasheetVersion: SBAS249B; PackageVersion: 4040065/E, 12/2001; PackageReference: DB24; PackageDescription: 24-Pin Plastic Small Outline, Body 8.2 x 5.3 mm, Pitch 0.65 mm; Supplier 1: Digi-Key; Supplier Part Number 1: DAC7731E/1KG4-ND; Supplier 2: Mouser; Supplier Part Number 2: 595-DAC7731E/1KG4; Eco-Plan: Green (RoHS & no Sb/Br); Mounting Technology: Surface Mount; Code_JEDEC: MO-150; ComponentLink1Description: Manufacturer URL; ComponentLink1URL: http://www.ti.com/; ComponentLink2Description: Datasheet; ComponentLink2URL: http://www.ti.com/general/docs/lit/getliterature.tsp?genericPartNumber=DAC7731&fileType=pdf; ComponentLink3Description: Package Specification; ComponentLink3URL: http://www.ti.com/lit/ml/msso002e/msso002e.pdf
footprint TI-DB24_N (SOP, 24-Leads, Body 8.2x5.3mm, Pitch 0.65mm, IPC Medium Density)
footprint TI-DB24_L (SOP, 24-Leads, Body 8.2x5.3mm, Pitch 0.65mm, IPC High Density)
footprint TI-DB24_M (SOP, 24-Leads, Body 8.2x5.3mm, Pitch 0.65mm, IPC Low Density)
pins: 1 VCC (power) "Positive Analog Power Supply", 2 REFOUT (hiz) "Internal Reference Output", 3 REFIN (in) "Reference Input", 4 REFADJ (in) "Internal Reference Trim. (Acts as a gain adjustment input when the internal reference is used.)", 5 VREF (in) "Buffered Output from REFIN, can be used to drive external devices. Internally, this pin directly drives the DAC's circuitry.", 6 ROFFSET "Offsetting Resistor", 7 AGND (power) "Analog ground", 8 RFB2 (in) "Feedback Resistor 2, used to configure DAC output range.", 9 RFB1 (in) "Feedback Resistor 1, used to configure DAC output range.", 10 SJ (in) "Summing Junction of the Output Amplifier", 11 VOUT (out) "DAC Voltage Output", 12 VDD (power) "Digital Power Supply", 13 DGND (power) "Digital Ground", 14 TEST (in) "Reserved, Connect to DGND", 15 NC "No Connection", 16 ~{RST} (in) "VOUT reset; active LOW, depending on the state of RSTSEL, the DAC register is either reset to midscale or min-scale.", 17 LDAC (in) "DAC register load control, rising dege triggered. Data is loaded from the input register to the DAC register.", 18 SDI (in) "Serial Data Input. Data is latched into the input register on the rising edge of SCLK.", 19 SDO (hiz) "Serial Data Output, delayed 16 SCLK clock cycles.", 20 ~{CS} (in) "Chip Select, Active LOW", 21 SCLK (in) "Serial Clock Input", 22 RSTSEL (in) "Reset Select; determines the action of R\S\T\. If HIGH, R\S\T\ will reset the DAC register to mid-scale. If LOW, R\S\T\ will reset the DAC register to min-scale.", 23 ~{REFEN} (in) "Enables internal +10V reference (REFOUT), active LOW.", 24 VSS (power) "Negative Analog Power Supply"

## DAC7731EB
designator U?
16-Bit, Single Channel, DAC with Internal + 10 V Reference and Serial Interface, -40 to 85 degC, 24-pin SOP (DB24), Green (RoHS & no Sb/Br); Manufacturer: Texas Instruments; PartNumber: DAC7731EB; DAC Channels: 1; DNL(Max)(+/-LSB): 2; INL(Max)(+/-LSB): 4; Interface: Serial SPI; Power Consumption(Typ)(mW): 100; Resolution(Bits): 16; Settling Time(us): 5; SubFamily: Precision DAC (=<10MSPS); DatasheetVersion: SBAS249B; PackageVersion: 4040065/E, 12/2001; PackageReference: DB24; PackageDescription: 24-Pin Plastic Small Outline, Body 8.2 x 5.3 mm, Pitch 0.65 mm; Supplier 1: Digi-Key; Supplier Part Number 1: 296-33257-5-ND; Supplier 2: Newark; Supplier Part Number 2: 74C9256; Supplier 3: Mouser; Supplier Part Number 3: 595-DAC7731EB; Eco-Plan: Green (RoHS & no Sb/Br); Mounting Technology: Surface Mount; Code_JEDEC: MO-150; ComponentLink1Description: Manufacturer URL; ComponentLink1URL: http://www.ti.com/; ComponentLink2Description: Datasheet; ComponentLink2URL: http://www.ti.com/general/docs/lit/getliterature.tsp?genericPartNumber=DAC7731&fileType=pdf; ComponentLink3Description: Package Specification; ComponentLink3URL: http://www.ti.com/lit/ml/msso002e/msso002e.pdf
footprint TI-DB24_N (SOP, 24-Leads, Body 8.2x5.3mm, Pitch 0.65mm, IPC Medium Density)
footprint TI-DB24_L (SOP, 24-Leads, Body 8.2x5.3mm, Pitch 0.65mm, IPC High Density)
footprint TI-DB24_M (SOP, 24-Leads, Body 8.2x5.3mm, Pitch 0.65mm, IPC Low Density)
pins: 1 VCC (power) "Positive Analog Power Supply", 2 REFOUT (hiz) "Internal Reference Output", 3 REFIN (in) "Reference Input", 4 REFADJ (in) "Internal Reference Trim. (Acts as a gain adjustment input when the internal reference is used.)", 5 VREF (in) "Buffered Output from REFIN, can be used to drive external devices. Internally, this pin directly drives the DAC's circuitry.", 6 ROFFSET "Offsetting Resistor", 7 AGND (power) "Analog ground", 8 RFB2 (in) "Feedback Resistor 2, used to configure DAC output range.", 9 RFB1 (in) "Feedback Resistor 1, used to configure DAC output range.", 10 SJ (in) "Summing Junction of the Output Amplifier", 11 VOUT (out) "DAC Voltage Output", 12 VDD (power) "Digital Power Supply", 13 DGND (power) "Digital Ground", 14 TEST (in) "Reserved, Connect to DGND", 15 NC "No Connection", 16 ~{RST} (in) "VOUT reset; active LOW, depending on the state of RSTSEL, the DAC register is either reset to midscale or min-scale.", 17 LDAC (in) "DAC register load control, rising dege triggered. Data is loaded from the input register to the DAC register.", 18 SDI (in) "Serial Data Input. Data is latched into the input register on the rising edge of SCLK.", 19 SDO (hiz) "Serial Data Output, delayed 16 SCLK clock cycles.", 20 ~{CS} (in) "Chip Select, Active LOW", 21 SCLK (in) "Serial Clock Input", 22 RSTSEL (in) "Reset Select; determines the action of R\S\T\. If HIGH, R\S\T\ will reset the DAC register to mid-scale. If LOW, R\S\T\ will reset the DAC register to min-scale.", 23 ~{REFEN} (in) "Enables internal +10V reference (REFOUT), active LOW.", 24 VSS (power) "Negative Analog Power Supply"

## DAC7731EB/1K
designator U?
16-Bit, Single Channel, DAC with Internal + 10 V Reference and Serial Interface, -40 to 85 degC, 24-pin SOP (DB24), Green (RoHS & no Sb/Br); Manufacturer: Texas Instruments; PartNumber: DAC7731EB/1K; DAC Channels: 1; DNL(Max)(+/-LSB): 2; INL(Max)(+/-LSB): 4; Interface: Serial SPI; Power Consumption(Typ)(mW): 100; Resolution(Bits): 16; Settling Time(us): 5; SubFamily: Precision DAC (=<10MSPS); DatasheetVersion: SBAS249B; PackageVersion: 4040065/E, 12/2001; PackageReference: DB24; PackageDescription: 24-Pin Plastic Small Outline, Body 8.2 x 5.3 mm, Pitch 0.65 mm; Supplier 1: Digi-Key; Supplier Part Number 1: DAC7731EB/1K-ND; Supplier 2: Mouser; Supplier Part Number 2: 595-DAC7731EB/1K; Eco-Plan: Green (RoHS & no Sb/Br); Mounting Technology: Surface Mount; Code_JEDEC: MO-150; ComponentLink1Description: Manufacturer URL; ComponentLink1URL: http://www.ti.com/; ComponentLink2Description: Datasheet; ComponentLink2URL: http://www.ti.com/general/docs/lit/getliterature.tsp?genericPartNumber=DAC7731&fileType=pdf; ComponentLink3Description: Package Specification; ComponentLink3URL: http://www.ti.com/lit/ml/msso002e/msso002e.pdf
footprint TI-DB24_N (SOP, 24-Leads, Body 8.2x5.3mm, Pitch 0.65mm, IPC Medium Density)
footprint TI-DB24_L (SOP, 24-Leads, Body 8.2x5.3mm, Pitch 0.65mm, IPC High Density)
footprint TI-DB24_M (SOP, 24-Leads, Body 8.2x5.3mm, Pitch 0.65mm, IPC Low Density)
pins: 1 VCC (power) "Positive Analog Power Supply", 2 REFOUT (hiz) "Internal Reference Output", 3 REFIN (in) "Reference Input", 4 REFADJ (in) "Internal Reference Trim. (Acts as a gain adjustment input when the internal reference is used.)", 5 VREF (in) "Buffered Output from REFIN, can be used to drive external devices. Internally, this pin directly drives the DAC's circuitry.", 6 ROFFSET "Offsetting Resistor", 7 AGND (power) "Analog ground", 8 RFB2 (in) "Feedback Resistor 2, used to configure DAC output range.", 9 RFB1 (in) "Feedback Resistor 1, used to configure DAC output range.", 10 SJ (in) "Summing Junction of the Output Amplifier", 11 VOUT (out) "DAC Voltage Output", 12 VDD (power) "Digital Power Supply", 13 DGND (power) "Digital Ground", 14 TEST (in) "Reserved, Connect to DGND", 15 NC "No Connection", 16 ~{RST} (in) "VOUT reset; active LOW, depending on the state of RSTSEL, the DAC register is either reset to midscale or min-scale.", 17 LDAC (in) "DAC register load control, rising dege triggered. Data is loaded from the input register to the DAC register.", 18 SDI (in) "Serial Data Input. Data is latched into the input register on the rising edge of SCLK.", 19 SDO (hiz) "Serial Data Output, delayed 16 SCLK clock cycles.", 20 ~{CS} (in) "Chip Select, Active LOW", 21 SCLK (in) "Serial Clock Input", 22 RSTSEL (in) "Reset Select; determines the action of R\S\T\. If HIGH, R\S\T\ will reset the DAC register to mid-scale. If LOW, R\S\T\ will reset the DAC register to min-scale.", 23 ~{REFEN} (in) "Enables internal +10V reference (REFOUT), active LOW.", 24 VSS (power) "Negative Analog Power Supply"

## DAC7731EB/1KG4
designator U?
16-Bit, Single Channel, DAC with Internal + 10 V Reference and Serial Interface, -40 to 85 degC, 24-pin SOP (DB24), Green (RoHS & no Sb/Br); Manufacturer: Texas Instruments; PartNumber: DAC7731EB/1KG4; DAC Channels: 1; DNL(Max)(+/-LSB): 2; INL(Max)(+/-LSB): 4; Interface: Serial SPI; Power Consumption(Typ)(mW): 100; Resolution(Bits): 16; Settling Time(us): 5; SubFamily: Precision DAC (=<10MSPS); DatasheetVersion: SBAS249B; PackageVersion: 4040065/E, 12/2001; PackageReference: DB24; PackageDescription: 24-Pin Plastic Small Outline, Body 8.2 x 5.3 mm, Pitch 0.65 mm; Supplier 1: Digi-Key; Supplier Part Number 1: DAC7731EB/1KG4-ND; Supplier 2: Mouser; Supplier Part Number 2: 595-DAC7731EB/1KG4; Eco-Plan: Green (RoHS & no Sb/Br); Mounting Technology: Surface Mount; Code_JEDEC: MO-150; ComponentLink1Description: Manufacturer URL; ComponentLink1URL: http://www.ti.com/; ComponentLink2Description: Datasheet; ComponentLink2URL: http://www.ti.com/general/docs/lit/getliterature.tsp?genericPartNumber=DAC7731&fileType=pdf; ComponentLink3Description: Package Specification; ComponentLink3URL: http://www.ti.com/lit/ml/msso002e/msso002e.pdf
footprint TI-DB24_N (SOP, 24-Leads, Body 8.2x5.3mm, Pitch 0.65mm, IPC Medium Density)
footprint TI-DB24_L (SOP, 24-Leads, Body 8.2x5.3mm, Pitch 0.65mm, IPC High Density)
footprint TI-DB24_M (SOP, 24-Leads, Body 8.2x5.3mm, Pitch 0.65mm, IPC Low Density)
pins: 1 VCC (power) "Positive Analog Power Supply", 2 REFOUT (hiz) "Internal Reference Output", 3 REFIN (in) "Reference Input", 4 REFADJ (in) "Internal Reference Trim. (Acts as a gain adjustment input when the internal reference is used.)", 5 VREF (in) "Buffered Output from REFIN, can be used to drive external devices. Internally, this pin directly drives the DAC's circuitry.", 6 ROFFSET "Offsetting Resistor", 7 AGND (power) "Analog ground", 8 RFB2 (in) "Feedback Resistor 2, used to configure DAC output range.", 9 RFB1 (in) "Feedback Resistor 1, used to configure DAC output range.", 10 SJ (in) "Summing Junction of the Output Amplifier", 11 VOUT (out) "DAC Voltage Output", 12 VDD (power) "Digital Power Supply", 13 DGND (power) "Digital Ground", 14 TEST (in) "Reserved, Connect to DGND", 15 NC "No Connection", 16 ~{RST} (in) "VOUT reset; active LOW, depending on the state of RSTSEL, the DAC register is either reset to midscale or min-scale.", 17 LDAC (in) "DAC register load control, rising dege triggered. Data is loaded from the input register to the DAC register.", 18 SDI (in) "Serial Data Input. Data is latched into the input register on the rising edge of SCLK.", 19 SDO (hiz) "Serial Data Output, delayed 16 SCLK clock cycles.", 20 ~{CS} (in) "Chip Select, Active LOW", 21 SCLK (in) "Serial Clock Input", 22 RSTSEL (in) "Reset Select; determines the action of R\S\T\. If HIGH, R\S\T\ will reset the DAC register to mid-scale. If LOW, R\S\T\ will reset the DAC register to min-scale.", 23 ~{REFEN} (in) "Enables internal +10V reference (REFOUT), active LOW.", 24 VSS (power) "Negative Analog Power Supply"

## DAC7731EBG4
designator U?
16-Bit, Single Channel, DAC with Internal + 10 V Reference and Serial Interface, -40 to 85 degC, 24-pin SOP (DB24), Green (RoHS & no Sb/Br); Manufacturer: Texas Instruments; PartNumber: DAC7731EBG4; DAC Channels: 1; DNL(Max)(+/-LSB): 2; INL(Max)(+/-LSB): 4; Interface: Serial SPI; Power Consumption(Typ)(mW): 100; Resolution(Bits): 16; Settling Time(us): 5; SubFamily: Precision DAC (=<10MSPS); DatasheetVersion: SBAS249B; PackageVersion: 4040065/E, 12/2001; PackageReference: DB24; PackageDescription: 24-Pin Plastic Small Outline, Body 8.2 x 5.3 mm, Pitch 0.65 mm; Supplier 1: Digi-Key; Supplier Part Number 1: DAC7731EBG4-ND; Supplier 2: Mouser; Supplier Part Number 2: 595-DAC7731EBG4; Eco-Plan: Green (RoHS & no Sb/Br); Mounting Technology: Surface Mount; Code_JEDEC: MO-150; ComponentLink1Description: Manufacturer URL; ComponentLink1URL: http://www.ti.com/; ComponentLink2Description: Datasheet; ComponentLink2URL: http://www.ti.com/general/docs/lit/getliterature.tsp?genericPartNumber=DAC7731&fileType=pdf; ComponentLink3Description: Package Specification; ComponentLink3URL: http://www.ti.com/lit/ml/msso002e/msso002e.pdf
footprint TI-DB24_N (SOP, 24-Leads, Body 8.2x5.3mm, Pitch 0.65mm, IPC Medium Density)
footprint TI-DB24_L (SOP, 24-Leads, Body 8.2x5.3mm, Pitch 0.65mm, IPC High Density)
footprint TI-DB24_M (SOP, 24-Leads, Body 8.2x5.3mm, Pitch 0.65mm, IPC Low Density)
pins: 1 VCC (power) "Positive Analog Power Supply", 2 REFOUT (hiz) "Internal Reference Output", 3 REFIN (in) "Reference Input", 4 REFADJ (in) "Internal Reference Trim. (Acts as a gain adjustment input when the internal reference is used.)", 5 VREF (in) "Buffered Output from REFIN, can be used to drive external devices. Internally, this pin directly drives the DAC's circuitry.", 6 ROFFSET "Offsetting Resistor", 7 AGND (power) "Analog ground", 8 RFB2 (in) "Feedback Resistor 2, used to configure DAC output range.", 9 RFB1 (in) "Feedback Resistor 1, used to configure DAC output range.", 10 SJ (in) "Summing Junction of the Output Amplifier", 11 VOUT (out) "DAC Voltage Output", 12 VDD (power) "Digital Power Supply", 13 DGND (power) "Digital Ground", 14 TEST (in) "Reserved, Connect to DGND", 15 NC "No Connection", 16 ~{RST} (in) "VOUT reset; active LOW, depending on the state of RSTSEL, the DAC register is either reset to midscale or min-scale.", 17 LDAC (in) "DAC register load control, rising dege triggered. Data is loaded from the input register to the DAC register.", 18 SDI (in) "Serial Data Input. Data is latched into the input register on the rising edge of SCLK.", 19 SDO (hiz) "Serial Data Output, delayed 16 SCLK clock cycles.", 20 ~{CS} (in) "Chip Select, Active LOW", 21 SCLK (in) "Serial Clock Input", 22 RSTSEL (in) "Reset Select; determines the action of R\S\T\. If HIGH, R\S\T\ will reset the DAC register to mid-scale. If LOW, R\S\T\ will reset the DAC register to min-scale.", 23 ~{REFEN} (in) "Enables internal +10V reference (REFOUT), active LOW.", 24 VSS (power) "Negative Analog Power Supply"

## DAC7731EC
designator U?
16-Bit, Single Channel, DAC with Internal + 10 V Reference and Serial Interface, -40 to 85 degC, 24-pin SOP (DB24), Green (RoHS & no Sb/Br); Manufacturer: Texas Instruments; PartNumber: DAC7731EC; DAC Channels: 1; INL(Max)(+/-LSB): 3; Interface: Serial SPI; Power Consumption(Typ)(mW): 100; Resolution(Bits): 16; Settling Time(us): 5; SubFamily: Precision DAC (=<10MSPS); DatasheetVersion: SBAS249B; PackageVersion: 4040065/E, 12/2001; PackageReference: DB24; PackageDescription: 24-Pin Plastic Small Outline, Body 8.2 x 5.3 mm, Pitch 0.65 mm; Supplier 1: Digi-Key; Supplier Part Number 1: DAC7731EC-ND; Supplier 2: Farnell; Supplier Part Number 2: 1180123; Supplier 3: Newark; Supplier Part Number 3: 25M6616; Supplier 4: Newark; Supplier Part Number 4: 74C9258; Supplier 5: Mouser; Supplier Part Number 5: 595-DAC7731EC; DNL(Max)(+/-LSB): 1; Eco-Plan: Green (RoHS & no Sb/Br); Mounting Technology: Surface Mount; Code_JEDEC: MO-150; ComponentLink1Description: Manufacturer URL; ComponentLink1URL: http://www.ti.com/; ComponentLink2Description: Datasheet; ComponentLink2URL: http://www.ti.com/general/docs/lit/getliterature.tsp?genericPartNumber=DAC7731&fileType=pdf; ComponentLink3Description: Package Specification; ComponentLink3URL: http://www.ti.com/lit/ml/msso002e/msso002e.pdf
footprint TI-DB24_N (SOP, 24-Leads, Body 8.2x5.3mm, Pitch 0.65mm, IPC Medium Density)
footprint TI-DB24_L (SOP, 24-Leads, Body 8.2x5.3mm, Pitch 0.65mm, IPC High Density)
footprint TI-DB24_M (SOP, 24-Leads, Body 8.2x5.3mm, Pitch 0.65mm, IPC Low Density)
pins: 1 VCC (power) "Positive Analog Power Supply", 2 REFOUT (hiz) "Internal Reference Output", 3 REFIN (in) "Reference Input", 4 REFADJ (in) "Internal Reference Trim. (Acts as a gain adjustment input when the internal reference is used.)", 5 VREF (in) "Buffered Output from REFIN, can be used to drive external devices. Internally, this pin directly drives the DAC's circuitry.", 6 ROFFSET "Offsetting Resistor", 7 AGND (power) "Analog ground", 8 RFB2 (in) "Feedback Resistor 2, used to configure DAC output range.", 9 RFB1 (in) "Feedback Resistor 1, used to configure DAC output range.", 10 SJ (in) "Summing Junction of the Output Amplifier", 11 VOUT (out) "DAC Voltage Output", 12 VDD (power) "Digital Power Supply", 13 DGND (power) "Digital Ground", 14 TEST (in) "Reserved, Connect to DGND", 15 NC "No Connection", 16 ~{RST} (in) "VOUT reset; active LOW, depending on the state of RSTSEL, the DAC register is either reset to midscale or min-scale.", 17 LDAC (in) "DAC register load control, rising dege triggered. Data is loaded from the input register to the DAC register.", 18 SDI (in) "Serial Data Input. Data is latched into the input register on the rising edge of SCLK.", 19 SDO (hiz) "Serial Data Output, delayed 16 SCLK clock cycles.", 20 ~{CS} (in) "Chip Select, Active LOW", 21 SCLK (in) "Serial Clock Input", 22 RSTSEL (in) "Reset Select; determines the action of R\S\T\. If HIGH, R\S\T\ will reset the DAC register to mid-scale. If LOW, R\S\T\ will reset the DAC register to min-scale.", 23 ~{REFEN} (in) "Enables internal +10V reference (REFOUT), active LOW.", 24 VSS (power) "Negative Analog Power Supply"